# Altium integrated library ic-optocoupler.IntLib: 5 symbols
Pins are listed as number, name and electrical type; pins without a type are passive.

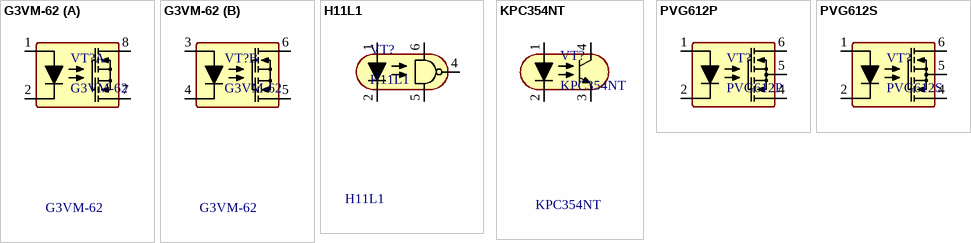
[diagram p0: symbols G3VM-62 to PVG612S]

## G3VM-62
designator VT?
Solid State Relay 0.5A X2; Manufacturer: OMRON; ManufacturerPartNumber: G3VM62C1; Type: power-relay; Power/Voltage: 60V; RevisionDate: 20-11-2018; Package: SOP8; Name: G3VM-62
footprint DIP-SMD-8 (SOJ, 8-Leads, Body 4,90x6,50mm, Pitch 2,54mm, IPC Low Density)
part A pins: 1, 2, 7, 8
part B pins: 3, 4, 5, 6

## H11L1
designator VT?
Optron 1MHz 3..15V 16mA; ManufacturerPartNumber: H11L1SM; Manufacturer: Fairchild; Type: ic-optocoupler; Power/Voltage: 15V; RevisionDate: 20-11-2018; Package: SOP6; Name: H11L1
footprint DIP-6
footprint DIP-SMD-6 (SOJ, 8-Leads, Body 4,90x6,50mm, Pitch 2,54mm, IPC Low Density)
pins: 1, 2, 4, 5, 6

## KPC354NT
designator VT?
Optron 50kHz 80V; Manufacturer: Cosmo; ManufacturerPartNumber: KPC354NTOB; Type: ic-optocoupler; Power/Voltage: 80V; RevisionDate: 20-11-2018; Package: MINI-4; Name: KPC354NT
footprint DIP-MINI-4 (SOJ, 8-Leads, Body 4,90x6,50mm, Pitch 2,54mm, IPC Low Density)
pins: 1, 2, 3, 4

## PVG612P
designator VT?
Solid State Relay 0.3A; Manufacturer: Infineon; ManufacturerPartNumber: PVG612PBF; Type: power-relay; Power/Voltage: 60V; Name: PVG612P; RevisionDate: 20-11-2018; Package: DIP6
footprint DIP-6
pins: 1, 2, 4, 5, 6

## PVG612S
designator VT?
Solid State Relay 0.3A; Manufacturer: Infineon; ManufacturerPartNumber: PVG612SPBF; Type: power-relay; Power/Voltage: 60V; Name: PVG612S; RevisionDate: 20-11-2018; Package: SOP6
footprint DIP-SMD-6 (SOJ, 8-Leads, Body 4,90x6,50mm, Pitch 2,54mm, IPC Low Density)
pins: 1, 2, 4, 5, 6